# EAGLE library part ADR3430ARJZ (library analog-devices)
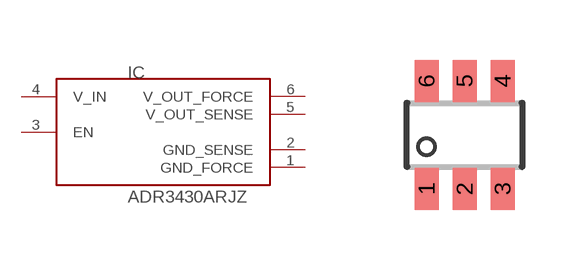
[diagram p3: symbol with the pads of SOT23-6; footprint SOT23-6]

Designator prefix IC

## ADR3430ARJZ  [SOT23-6]
1  GND_FORCE
2  GND_SENSE
3  EN
4  V_IN
5  V_OUT_SENSE
6  V_OUT_FORCE

## Footprint SOT23-6 (pad centres in mm)
SOT-23-6 Plastic Small Outline (DBV) - 6-Lead Package Source: http://www.ti.com/lit/ds/symlink/tlv3501.pdf
smd 0.6 x 1.05: 1 -0.95,-1.35; 2 0,-1.35; 3 0.95,-1.35; 4 0.95,1.35; 5 0,1.35; 6 -0.95,1.35